# Altium integrated library GRM188R6YA106MA73D.IntLib: 1 symbol
Pins are listed as number, name and electrical type; pins without a type are passive.

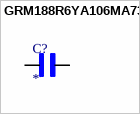
[diagram p0: symbol GRM188R6YA106MA73D]

## GRM188R6YA106MA73D
designator C?
SMD capacitor X5R(EIA) with capacitance 10uF Tol.20%. Rated voltage 35Vdc 85C; MF: Murata; MP: GRM188R6YA106MA73D; SnapEDA_Link: https://www.snapeda.com/parts/GRM188R6YA106MA73D/Murata/view-part/?ref=snap; Package: 1608 Murata; Value: *; Check_prices: https://www.snapeda.com/parts/GRM188R6YA106MA73D/Murata/view-part/?ref=eda
footprint CAPC1608X100N
pins: 1, 2